# EAGLE library part MIC2860-C6 (library keves)
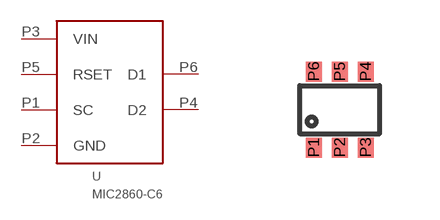
[diagram p1: symbol with the pads of SC-70(C6); footprint SC-70(C6)]

Designator prefix -

## MIC2860-C6  [SC-70(C6)]
P1  SC
P2  GND
P3  VIN
P4  D2
P5  RSET
P6  D1

## Footprint SC-70(C6) (pad centres in mm)
smd 0.4 x 0.5: P1 -0.65,-0.95; P2 0,-0.95; P3 0.65,-0.95; P4 0.65,0.95; P5 0,0.95; P6 -0.65,0.95